# EAGLE library part L3G4200D (library L3G4200D)
Check availability <https://pricing.snapeda.com/parts/L3G4200D/STMicroelectronics/view-part?ref=eda>
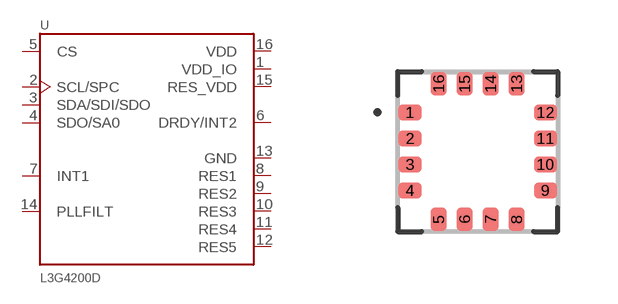
[diagram p0: symbol with the pads of PQFN65P400X400X110N; footprint PQFN65P400X400X110N]

Designator prefix U

## L3G4200D (Availability: In Stock; Check_prices: https://www.snapeda.com/parts/L3G4200D/STMicroelectronics/view-part/?ref=eda; Description: L3G4200D, LSM303DLHC - Accelerometer, Gyroscope, Magnetometer, 3 Axis Sensor Evaluation Board; MF: STMicroelectronics; MP: L3G4200D; Package: TFLGA-16 STMicroelectronics; Price: None; SnapEDA_Link: https://www.snapeda.com/parts/L3G4200D/STMicroelectronics/view-part/?ref=snap)  [PQFN65P400X400X110N]
1  VDD_IO  pwr
2  SCL/SPC  in
3  SDA/SDI/SDO
4  SDO/SA0  out
5  CS  in
6  DRDY/INT2  out
7  INT1  in
8  RES1  pwr
9  RES2  pwr
10  RES3  pwr
11  RES4  pwr
12  RES5  pwr
13  GND  pwr
14  PLLFILT  in
15  RES_VDD  pwr
16  VDD  pwr

## Footprint PQFN65P400X400X110N (pad centres in mm)
smd 0.58 x 0.4: 1 -1.695,0.975; 2 -1.695,0.325; 3 -1.695,-0.325; 4 -1.695,-0.975; 9 1.695,-0.975; 10 1.695,-0.325; 11 1.695,0.325; 12 1.695,0.975
smd 0.4 x 0.58: 5 -0.975,-1.695; 6 -0.325,-1.695; 7 0.325,-1.695; 8 0.975,-1.695; 13 0.975,1.695; 14 0.325,1.695; 15 -0.325,1.695; 16 -0.975,1.695